# Altium schematic symbol library Schlib_Omron_Electronics.SchLib: 11 symbols
Pins are listed as number, name and electrical type; pins without a type are passive.

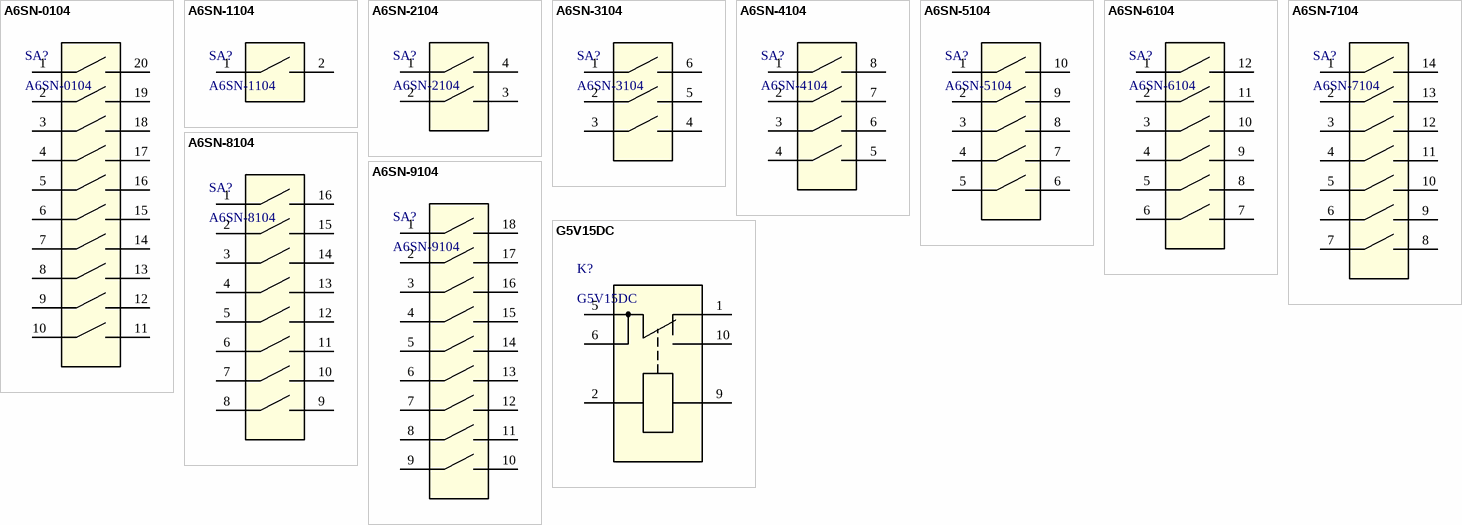
[diagram p0: symbols A6SN-0104 to G5V15DC]

## A6SN-0104
designator SA?
Switch slide DIP SPST 25MA 24V (Actuator Level - Raised); Manufacturer: Omron Electronics; Poles: 10; Part Number: A6SN-0104
footprint A6SN-0104
pins: 1, 2, 3, 4, 5, 6, 7, 8, 9, 10, 11, 12, 13, 14, 15, 16, 17, 18, 19, 20

## A6SN-1104
designator SA?
Switch slide DIP SPST 25MA 24V (Actuator Level - Raised); Manufacturer: Omron Electronics; Poles: 1; Part Number: A6SN-1104
footprint A6SN-1104
pins: 1, 2

## A6SN-2104
designator SA?
Switch slide DIP SPST 25MA 24V (Actuator Level - Raised); Manufacturer: Omron Electronics; Poles: 2; Part Number: A6SN-2104
footprint A6SN-2104
pins: 1, 2, 3, 4

## A6SN-3104
designator SA?
Switch slide DIP SPST 25MA 24V (Actuator Level - Raised); Manufacturer: Omron Electronics; Poles: 3; Part Number: A6SN-3104
footprint A6SN-3104
pins: 1, 2, 3, 4, 5, 6

## A6SN-4104
designator SA?
Switch slide DIP SPST 25MA 24V (Actuator Level - Raised); Manufacturer: Omron Electronics; Poles: 4; Part Number: A6SN-4104
footprint A6SN-4104
pins: 1, 2, 3, 4, 5, 6, 7, 8

## A6SN-5104
designator SA?
Switch slide DIP SPST 25MA 24V (Actuator Level - Raised); Manufacturer: Omron Electronics; Poles: 5; Part Number: A6SN-5104
footprint A6SN-5104
pins: 1, 2, 3, 4, 5, 6, 7, 8, 9, 10

## A6SN-6104
designator SA?
Switch slide DIP SPST 25MA 24V (Actuator Level - Raised); Manufacturer: Omron Electronics; Poles: 6; Part Number: A6SN-6104
footprint A6SN-6104
pins: 1, 2, 3, 4, 5, 6, 7, 8, 9, 10, 11, 12

## A6SN-7104
designator SA?
Switch slide DIP SPST 25MA 24V (Actuator Level - Raised); Manufacturer: Omron Electronics; Poles: 7; Part Number: A6SN-7104
footprint A6SN-7104
pins: 1, 2, 3, 4, 5, 6, 7, 8, 9, 10, 11, 12, 13, 14

## A6SN-8104
designator SA?
Switch slide DIP SPST 25MA 24V (Actuator Level - Raised); Manufacturer: Omron Electronics; Poles: 8; Part Number: A6SN-8104
footprint A6SN-8104
pins: 1, 2, 3, 4, 5, 6, 7, 8, 9, 10, 11, 12, 13, 14, 15, 16

## A6SN-9104
designator SA?
Switch slide DIP SPST 25MA 24V (Actuator Level - Raised); Manufacturer: Omron Electronics; Poles: 9; Part Number: A6SN-9104
footprint A6SN-9104
pins: 1, 2, 3, 4, 5, 6, 7, 8, 9, 10, 11, 12, 13, 14, 15, 16, 17, 18

## G5V15DC
designator K?
Ultra-miniature, Highly Sensitive SPDT Relay for Signal Circuits; Manufacturer: Omron Electronics; Part Number: G5V15DC
footprint G5V-1
pins: 1, 2, 5, 6, 9, 10